# EAGLE library part ICS7152 (library lbm)
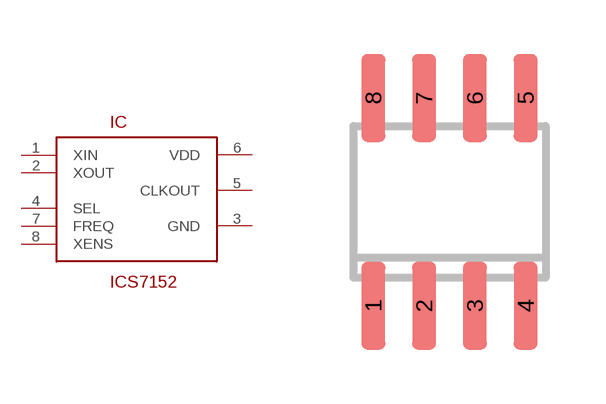
[diagram p25: symbol with the pads of SO8; footprint SO8]

Designator prefix IC

## ICS7152  [SO8]
1  XIN
2  XOUT
3  GND
4  SEL
5  CLKOUT
6  VDD
7  FREQ
8  XENS

## Footprint SO8 (pad centres in mm)
smd 0.6 x 2.2: 1 -1.905,-2.6; 2 -0.635,-2.6; 3 0.635,-2.6; 4 1.905,-2.6; 5 1.905,2.6; 6 0.635,2.6; 7 -0.635,2.6; 8 -1.905,2.6